# Altium schematic symbol library Transistors GaN.SchLib: 2 symbols
Pins are listed as number, name and electrical type; pins without a type are passive.

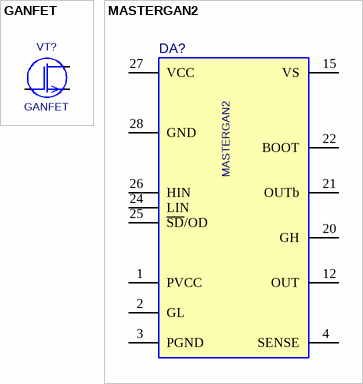
[diagram p0: symbols GANFET to MASTERGAN2]

## GANFET
designator VT?
Gallium Nitride (GaN) FET; OriginalName: 2N4124; ComponentField6: Published 8-Jun-2000, Modified 11-July-2000: SIM Model Added.; Value: *
footprint TO-247H-GAN-BOTTOM
pins: 1 G, 2 S, 3 D

## MASTERGAN2
designator DA?
High power density 600V Half bridge driver with two enhancement mode GaN HEMT / RDS(ON) = 150 mΩ (LS) + 225 mΩ (HS) / IDS(MAX) = 10 A (LS) + 6.5 A (HS); Part Field 1: *; Part Field 2: *
footprint MASTERGAN2 (QFN 9 x 9 x 1 mm)
pins: 1 PVCC, 2 GL, 3 PGND, 4 SENSE, 12 OUT, 15 VS, 20 GH, 21 OUTb, 22 BOOT, 24 LIN, 25 ~{SD}/OD, 26 HIN, 27 VCC, 28 GND